# Altium integrated library B4B-XH-A_LF__SN_.IntLib: 1 symbol
Pins are listed as number, name and electrical type; pins without a type are passive.

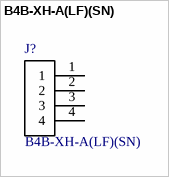
[diagram p0: symbol B4B-XH-A(LF)(SN)]

## B4B-XH-A(LF)(SN)
designator J?
B4B-XH-A_LF__SN_; MF: JST Sales; Digi-Key_Purchase_URL: https://www.digikey.in/product-detail/en/jst-sales-america-inc/B4B-XH-A_LF__SN_/455-2249-ND/1651047?utm_source=snapeda&utm_medium=aggregator&utm_campaign=symbol; Package: None; MP: B4B-XH-A_LF__SN_; SnapEDA_Link: https://www.snapeda.com/parts/B4B-XH-A%28LF%29%28SN%29/JST%20Sales%20America%20Inc./view-part/?ref=snap; Digi-Key_Part_Number: 455-2249-ND; Value: *
footprint *JST_B4B-XH-A(LF)(SN)
pins: 1, 2, 3, 4